# Altium footprint library CST-951AP.PcbLib: 1 footprints
Each footprint in its own frame and in the unit in brackets; x right, y up, seen from the top. Pads: shape width x height; smd on the part's side, far side on the other; paste and mask are expansions set on the pad; w line width, h text height; cw(c..) or ccw(c..) is an arc to the next point about the centre after c.
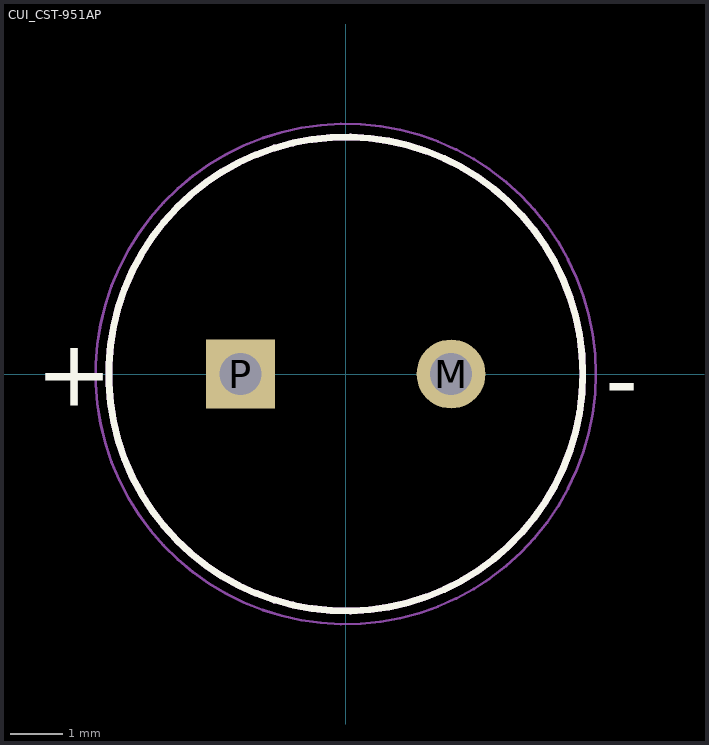
[diagram p0: the footprint, top view; thin cyan lines are the x and y axes]

## CUI_CST-951AP [mm]
pads (2):
  round 1.308 hole 0.8: M(2,0)
  rect 1.308x1.308 hole 0.8: P(-2,0)
Top Overlay:
  circle w0.127: c0,0 r4.5
  text "-" at 4.925,-0.729 h1.27
  text "+" at -5.885,-0.602 h1.27
Mechanical 13:
  circle w0.127: c0,0 r4.5
Mechanical 15:
  circle w0.05: c0,0 r4.75